# EAGLE library part STM32F103VCT (library SmartMDCPrint)
STMicroelectronics ARM Cortex M3 High Density STM32F103VCT6 microcontroller
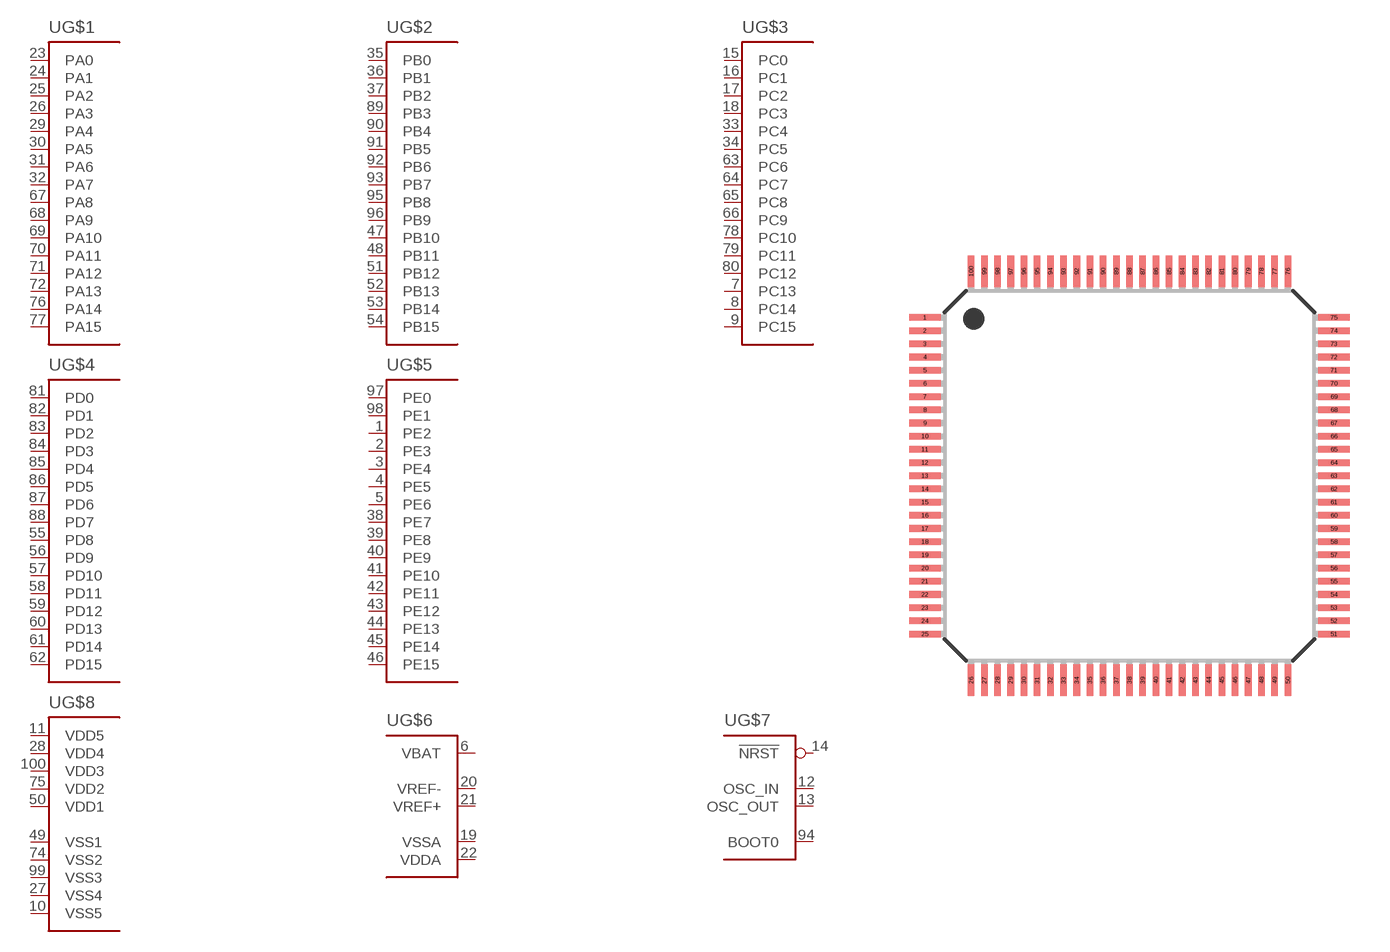
[diagram p1: symbol with the pads of LOFP-100; footprint LOFP-100]

Designator prefix U; gates G$1=PORT_A G$2=PORT_B G$3=PORT_C G$4=PORT_D G$5=PORT_E G$8=VSS_VDD_H G$7=BOOT_OSC_RST G$6=BAT_AN_H

## STM32F103VCT  [LOFP-100]
1  G$5:PE2
2  G$5:PE3
3  G$5:PE4
4  G$5:PE5
5  G$5:PE6
6  G$6:VBAT  pwr
7  G$3:PC13
8  G$3:PC14
9  G$3:PC15
10  G$8:VSS5  pwr
11  G$8:VDD5  pwr
12  G$7:OSC_IN  in
13  G$7:OSC_OUT  out
14  G$7:!NRST  in
15  G$3:PC0
16  G$3:PC1
17  G$3:PC2
18  G$3:PC3
19  G$6:VSSA  pwr
20  G$6:VREF-  pwr
21  G$6:VREF+  pwr
22  G$6:VDDA  pwr
23  G$1:PA0
24  G$1:PA1
25  G$1:PA2
26  G$1:PA3
27  G$8:VSS4  pwr
28  G$8:VDD4  pwr
29  G$1:PA4
30  G$1:PA5
31  G$1:PA6
32  G$1:PA7
33  G$3:PC4
34  G$3:PC5
35  G$2:PB0
36  G$2:PB1
37  G$2:PB2
38  G$5:PE7
39  G$5:PE8
40  G$5:PE9
41  G$5:PE10
42  G$5:PE11
43  G$5:PE12
44  G$5:PE13
45  G$5:PE14
46  G$5:PE15
47  G$2:PB10
48  G$2:PB11
49  G$8:VSS1  pwr
50  G$8:VDD1  pwr
51  G$2:PB12
52  G$2:PB13
53  G$2:PB14
54  G$2:PB15
55  G$4:PD8
56  G$4:PD9
57  G$4:PD10
58  G$4:PD11
59  G$4:PD12
60  G$4:PD13
61  G$4:PD14
62  G$4:PD15
63  G$3:PC6
64  G$3:PC7
65  G$3:PC8
66  G$3:PC9
67  G$1:PA8
68  G$1:PA9
69  G$1:PA10
70  G$1:PA11
71  G$1:PA12
72  G$1:PA13
74  G$8:VSS2  pwr
75  G$8:VDD2  pwr
76  G$1:PA14
77  G$1:PA15
78  G$3:PC10
79  G$3:PC11
80  G$3:PC12
81  G$4:PD0
82  G$4:PD1
83  G$4:PD2
84  G$4:PD3
85  G$4:PD4
86  G$4:PD5
87  G$4:PD6
88  G$4:PD7
89  G$2:PB3
90  G$2:PB4
91  G$2:PB5
92  G$2:PB6
93  G$2:PB7
94  G$7:BOOT0  in
95  G$2:PB8
96  G$2:PB9
97  G$5:PE0
98  G$5:PE1
99  G$8:VSS3  pwr
100  G$8:VDD3  pwr

## Footprint LOFP-100 (pad centres in mm)
LQFP-100 package
smd 1.2 x 0.25: 1 -7.75,6; 2 -7.75,5.5; 3 -7.75,5; 4 -7.75,4.5; 5 -7.75,4; 6 -7.75,3.5; 7 -7.75,3; 8 -7.75,2.5; 9 -7.75,2; 10 -7.75,1.5; 11 -7.75,1; 12 -7.75,0.5; 13 -7.75,0; 14 -7.75,-0.5; 15 -7.75,-1; 16 -7.75,-1.5; 17 -7.75,-2; 18 -7.75,-2.5; 19 -7.75,-3; 20 -7.75,-3.5; 21 -7.75,-4; 22 -7.75,-4.5; 23 -7.75,-5; 24 -7.75,-5.5; 25 -7.75,-6; 51 7.75,-6; 52 7.75,-5.5; 53 7.75,-5; 54 7.75,-4.5; 55 7.75,-4; 56 7.75,-3.5; 57 7.75,-3; 58 7.75,-2.5; 59 7.75,-2; 60 7.75,-1.5; 61 7.75,-1; 62 7.75,-0.5; 63 7.75,0; 64 7.75,0.5; 65 7.75,1; 66 7.75,1.5; 67 7.75,2; 68 7.75,2.5; 69 7.75,3; 70 7.75,3.5; 71 7.75,4; 72 7.75,4.5; 73 7.75,5; 74 7.75,5.5; 75 7.75,6
smd 0.25 x 1.2: 26 -6,-7.75; 27 -5.5,-7.75; 28 -5,-7.75; 29 -4.5,-7.75; 30 -4,-7.75; 31 -3.5,-7.75; 32 -3,-7.75; 33 -2.5,-7.75; 34 -2,-7.75; 35 -1.5,-7.75; 36 -1,-7.75; 37 -0.5,-7.75; 38 0,-7.75; 39 0.5,-7.75; 40 1,-7.75; 41 1.5,-7.75; 42 2,-7.75; 43 2.5,-7.75; 44 3,-7.75; 45 3.5,-7.75; 46 4,-7.75; 47 4.5,-7.75; 48 5,-7.75; 49 5.5,-7.75; 50 6,-7.75; 76 6,7.75; 77 5.5,7.75; 78 5,7.75; 79 4.5,7.75; 80 4,7.75; 81 3.5,7.75; 82 3,7.75; 83 2.5,7.75; 84 2,7.75; 85 1.5,7.75; 86 1,7.75; 87 0.5,7.75; 88 0,7.75; 89 -0.5,7.75; 90 -1,7.75; 91 -1.5,7.75; 92 -2,7.75; 93 -2.5,7.75; 94 -3,7.75; 95 -3.5,7.75; 96 -4,7.75; 97 -4.5,7.75; 98 -5,7.75; 99 -5.5,7.75; 100 -6,7.75